# Altium footprint library SOT85P240X115-3N.PcbLib: 1 footprints
Each footprint in its own frame and in the unit in brackets; x right, y up, seen from the top. Pads: shape width x height; smd on the part's side, far side on the other; paste and mask are expansions set on the pad; w line width, h text height; cw(c..) or ccw(c..) is an arc to the next point about the centre after c.
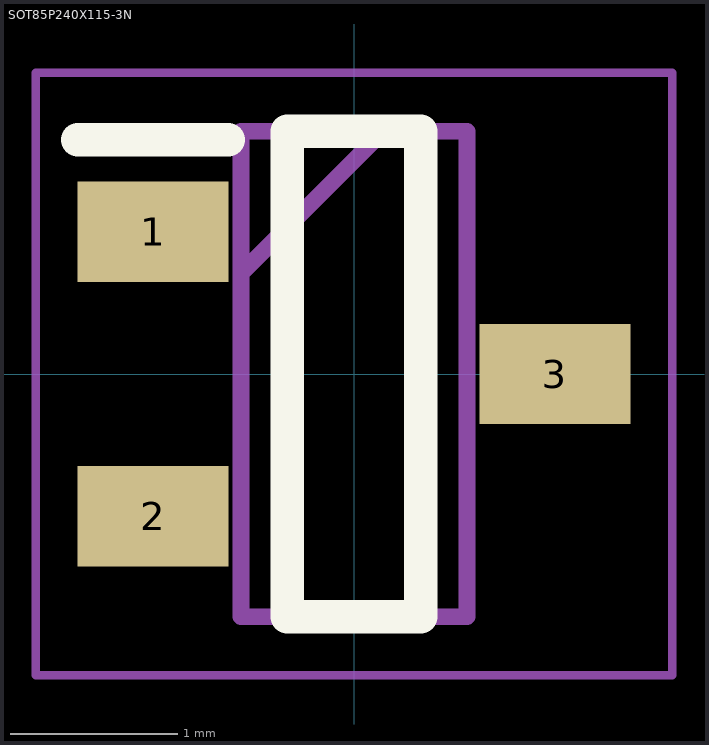
[diagram p0: the footprint, top view; thin cyan lines are the x and y axes]

## SOT85P240X115-3N [mm]
pads (3):
  rect 0.9x0.6 smd: 1(-1.2,0.85) 2(-1.2,-0.85) 3(1.2,0)
Top Overlay:
  lines w0.2: -1.65,1.4 -0.75,1.4 ; -0.4,-1.45 0.4,-1.45 0.4,1.45 -0.4,1.45 -0.4,-1.45
Mechanical 15:
  lines w0.1: -0.675,0.6 0.175,1.45 ; -0.675,-1.45 0.675,-1.45 0.675,1.45 -0.675,1.45 -0.675,-1.45
Mechanical 20:
  lines w0.05: -1.9,-1.8 1.9,-1.8 1.9,1.8 -1.9,1.8 -1.9,-1.8
3D body "2SD2653KT146.stp": height 5.8, standoff -4.65, extent -10,-3.376 10,3.376